# Altium schematic symbol library MC32596.SchLib: 2 symbols
Pins are listed as number, name and electrical type; pins without a type are passive.

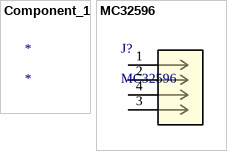
[diagram p0: symbols Component_1 to MC32596]

## Component_1
designator *

## MC32596
designator J?
No Description Available; Mfr_Name: Multicomp; Copyright: Copyright (C) 2023 Ultra Librarian. All rights reserved.; Manufacturer_Part_Number: MC32596; RefDes: RefDes; Type: DEV
footprint CONN4_MC32596_MTC
pins: 1, 2, 3, 4